# Altium schematic symbol library ЕРКФ.426477.005Э3.SchLib: 24 symbols
Pins are listed as number, name and electrical type; pins without a type are passive.

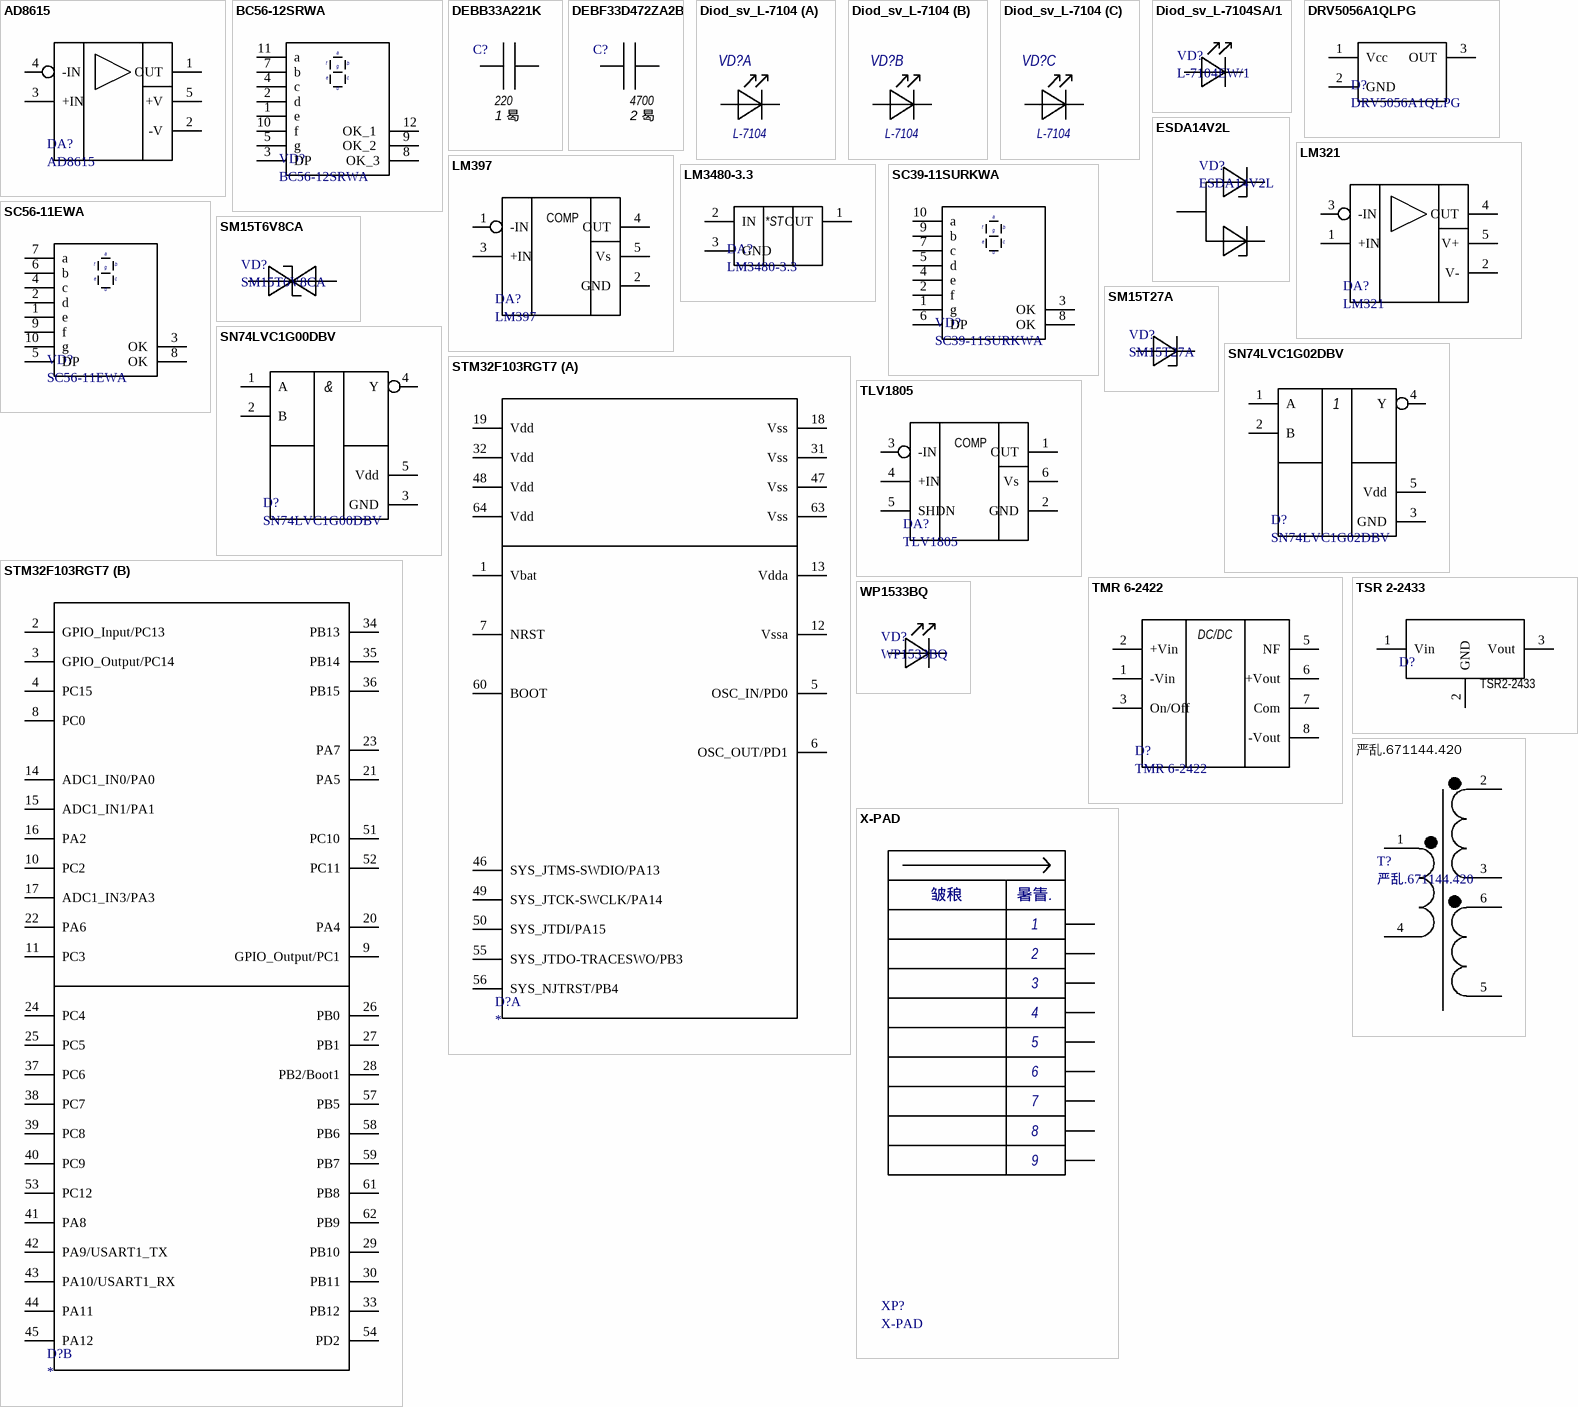
[diagram p0: symbols AD8615 to 严乱.671144.420]

## AD8615
designator DA?
pins: 1 OUT, 2 -V, 3 +IN, 4 -IN, 5 +V

## BC56-12SRWA
designator VD?
pins: 1 e (power), 2 d (power), 3 DP (power), 4 c (power), 5 g (power), 7 b (power), 8 OK_3 (power), 9 OK_2  (power), 10 f (power), 11 a (power), 12 OK_1  (power)

## DEBB33A221K
designator C?  value 220  Voltage: 1 曷  (hidden comment: DEBB33A221K)
Disk capacitor; Tolerance: 10%; Dielectric: *; Capacitance: *
pins: 1, 2

## DEBF33D472ZA2B
designator C?  value 4700  Voltage: 2 曷  (hidden comment: DEBF33D472ZA2B)
Disc capacitor; Tolerance: 10%; Dielectric: *; Capacitance: *
pins: 1, 2

## Diod_sv_L-7104
designator VD?  Type: L-7104  (hidden comment: *)
footprint L-7104SA/3
part A pins: 1 A1, 2 K1
part B pins: 3 A2, 4 K2
part C pins: 5 A2, 6 K2

## Diod_sv_L-7104SA/1
designator VD?, comment L-7104EW/1
Type: L-7104EW/1
footprint L-7104SA/1
pins: 3 A2, 4 K2

## DRV5056A1QLPG
designator D?
pins: 1 Vcc, 2 GND, 3 OUT

## ESDA14V2L
designator VD?
footprint SOT-23
pins: 1 K, 2 K, 3 A

## LM321
designator DA?
pins: 1 +IN, 2 V-, 3 -IN, 4 OUT, 5 V+

## LM397
designator DA?
pins: 1 -IN, 2 GND, 3 +IN, 4 OUT, 5 Vs
text: COMP

## LM3480-3.3
designator DA?
pins: 1 OUT, 2 IN, 3 GND
text: *ST

## SC39-11SURKWA
designator VD?
Type: SC39-11SURKWA
pins: 1 g (power), 2 f (power), 3 OK (power), 4 e (power), 5 d (power), 6 DP (power), 7 c (power), 8 OK (power), 9 b (power), 10 a (power)

## SC56-11EWA
designator VD?
pins: 1 e (power), 2 d (power), 3 OK (power), 4 c (power), 5 DP (power), 6 b (power), 7 a (power), 8 OK (power), 9 f (power), 10 g (power)

## SM15T6V8CA
designator VD?
pins: A, K

## SM15T27A
designator VD?
footprint SMC/DO-214AB
pins: A, K

## SN74LVC1G00DBV
designator D?
pins: 1 A, 2 B, 3 GND, 4 Y, 5 Vdd
text: &

## SN74LVC1G02DBV
designator D?
pins: 1 A, 2 B, 3 GND, 4 Y, 5 Vdd

## STM32F103RGT7
designator D?
footprint TSQFP50P1200X1200X160-64N (TSQFP, 64-Leads, Body 10,00x10,00mm, Pitch 0,50mm, IPC Medium Density)
part A pins: 1 Vbat, 5 OSC_IN/PD0, 6 OSC_OUT/PD1, 7 NRST, 12 Vssa, 13 Vdda, 18 Vss, 19 Vdd, 31 Vss, 32 Vdd, 46 SYS_JTMS-SWDIO/PA13, 47 Vss, 48 Vdd, 49 SYS_JTCK-SWCLK/PA14, 50 SYS_JTDI/PA15, 55 SYS_JTDO-TRACESWO/PB3, 56 SYS_NJTRST/PB4, 60 BOOT, 63 Vss, 64 Vdd
part B pins: 2 GPIO_Input/PC13, 3 GPIO_Output/PC14, 4 PC15, 8 PC0, 9 GPIO_Output/PC1, 10 PC2, 11 PC3, 14 ADC1_IN0/PA0, 15 ADC1_IN1/PA1, 16 PA2, 17 ADC1_IN3/PA3, 20 PA4, 21 PA5, 22 PA6, 23 PA7, 24 PC4, 25 PC5, 26 PB0, 27 PB1, 28 PB2/Boot1, 29 PB10, 30 PB11, 33 PB12, 34 PB13, 35 PB14, 36 PB15, 37 PC6, 38 PC7, 39 PC8, 40 PC9, 41 PA8, 42 PA9/USART1_TX, 43 PA10/USART1_RX, 44 PA11, 45 PA12, 51 PC10, 52 PC11, 53 PC12, 54 PD2, 57 PB5, 58 PB6, 59 PB7, 61 PB8, 62 PB9

## TLV1805
designator DA?
pins: 1 OUT, 2 GND, 3 -IN, 4 +IN, 5 SHDN, 6 Vs
text: COMP

## TMR 6-2422
designator D?
footprint TMR 3-2422
pins: 1 -Vin (power), 2 +Vin (power), 3 On/Off (power), 5 NF (power), 6 +Vout (power), 7 Com (power), 8 -Vout (power)
text: DC/DC

## TSR 2-2433
designator D?, comment TSR2-2433
Type: TSR2-2433
footprint SIP3
pins: 1 Vin, 2 GND, 3 Vout

## WP1533BQ
designator VD?
pins: 3 A2, 4 K2

## X-PAD
designator XP?
Type: X-PAD
pins: 1 1c, 2 2c, 3 3c, 4 4c, 5 5c, 6 6c, 7 7e, 8 8e, 9
text: 皱稂; 暑眚.

## 严乱.671144.420
designator T?
footprint 严乱.671144.420
pins: 1, 2, 3, 4, 5, 6